# EAGLE library part ICM_20649 (library IMU_Breakout_SCH_E)
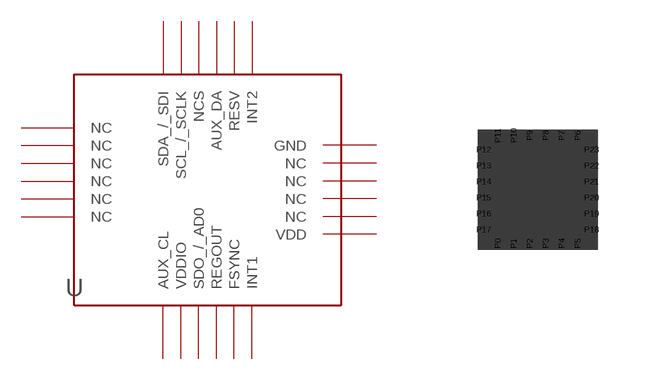
[diagram p0: symbol with the pads of ICM-20649; footprint ICM-20649]

Designator prefix U

## ICM_20649  [ICM-20649]
P0  AUX_CL  pas
P1  VDDIO  pas
P2  SDO_/_AD0  pas
P3  REGOUT  pas
P4  FSYNC  pas
P5  INT1  pas
P6  INT2  pas
P7  RESV  pas
P8  AUX_DA  pas
P9  NCS  pas
P10  SCL_/_SCLK  pas
P11  SDA_/_SDI  pas
P12  NC  pas
P13  NC  pas
P14  NC  pas
P15  NC  pas
P16  NC  pas
P17  NC  pas
P18  VDD  pas
P19  NC  pas
P20  NC  pas
P21  NC  pas
P22  NC  pas
P23  GND  pas

## Footprint ICM-20649 (pad centres in mm)
smd 0.2 x 0.3: P0 0.5,0.15; P1 0.9,0.15; P2 1.3,0.15; P3 1.7,0.15; P4 2.1,0.15; P5 2.5,0.15; P6 2.5,2.85; P7 2.1,2.85; P8 1.7,2.85; P9 1.3,2.85; P10 0.9,2.85; P11 0.5,2.85
smd 0.3 x 0.2: P12 0.15,2.5; P13 0.15,2.1; P14 0.15,1.7; P15 0.15,1.3; P16 0.15,0.9; P17 0.15,0.5; P18 2.85,0.5; P19 2.85,0.9; P20 2.85,1.3; P21 2.85,1.7; P22 2.85,2.1; P23 2.85,2.5